# Altium footprint library PcbLib.PcbLib: 37 footprints (part 1 of 3)
Each footprint in its own frame and in the unit in brackets; x right, y up, seen from the top. Pads: shape width x height; smd on the part's side, far side on the other; paste and mask are expansions set on the pad; w line width, h text height; cw(c..) or ccw(c..) is an arc to the next point about the centre after c.
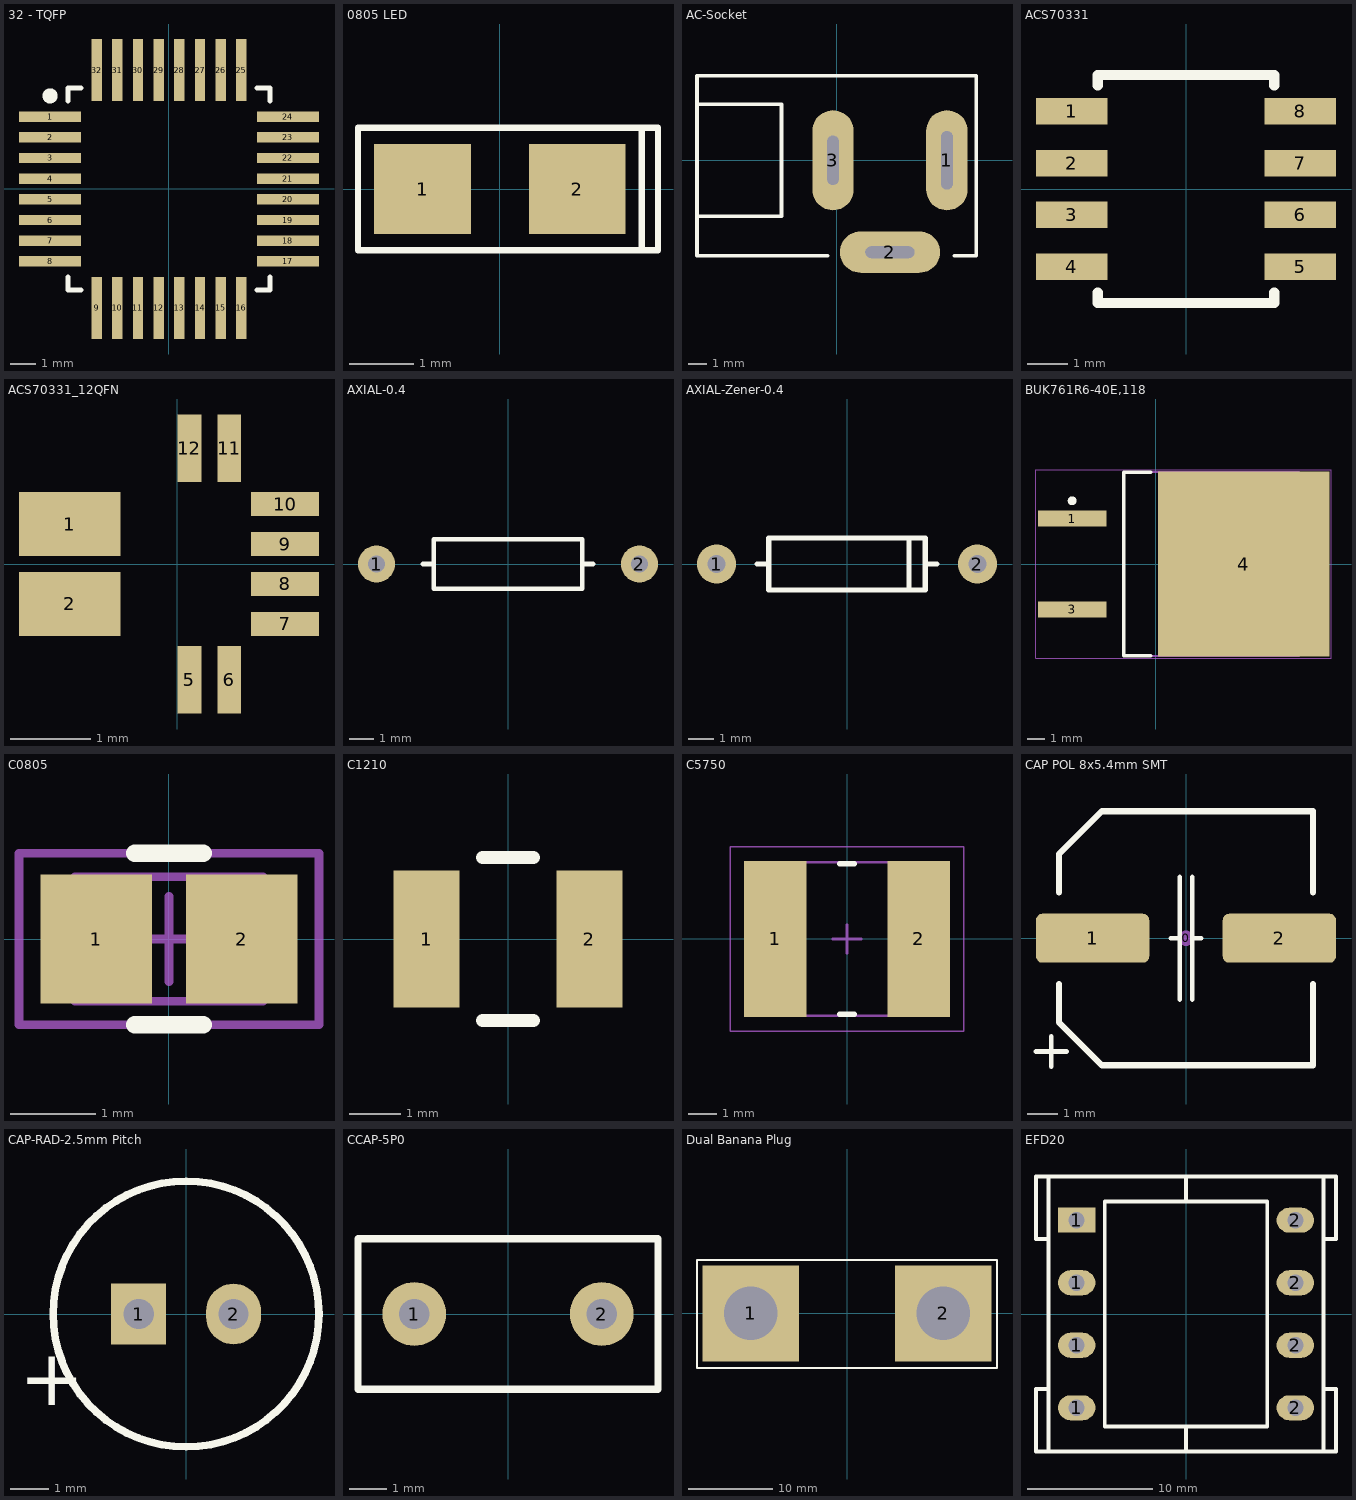
[diagram p0: the footprints below, top view; thin cyan lines are the x and y axes]

## 32 - TQFP [mm]
pads (32):
  rect 2.4x0.4 smd: 1(-4.6,2.8) 2(-4.6,2) 3(-4.6,1.2) 4(-4.6,0.4) 5(-4.6,-0.4) 6(-4.6,-1.2) 7(-4.6,-2) 8(-4.6,-2.8) 17(4.6,-2.8) 18(4.6,-2) 19(4.6,-1.2) 20(4.6,-0.4) 21(4.6,0.4) 22(4.6,1.2) 23(4.6,2) 24(4.6,2.8)
  rect 0.4x2.4 smd: 9(-2.8,-4.6) 10(-2,-4.6) 11(-1.2,-4.6) 12(-0.4,-4.6) 13(0.4,-4.6) 14(1.2,-4.6) 15(2,-4.6) 16(2.8,-4.6) 25(2.8,4.6) 26(2,4.6) 27(1.2,4.6) 28(0.4,4.6) 29(-0.4,4.6) 30(-1.2,4.6) 31(-2,4.6) 32(-2.8,4.6)
Top Overlay:
  circle w0.3: c-4.6,3.6 r0.141
  lines w0.2: -3.9,-3.4 -3.9,-3.9 -3.4,-3.9 ; -3.9,3.4 -3.9,3.9 -3.4,3.9 ; 3.4,-3.9 3.9,-3.9 3.9,-3.4 ; 3.4,3.9 3.9,3.9 3.9,3.4
3D body "ATmega_AP214.STEP": height 1, standoff -0.1, extent -4.498,-4.498 4.498,4.498
3D body: height 1.3, standoff 0.1, extent -3,2 -2.004,2.998

## 0805 LED [mm] "RED AS AlGaAs SMD LED, Body; 2mm x 1.25 mm (LxW)"
height 1
pads (2):
  rect 1.5x1.4 smd: 1(-1.2,0) 2(1.2,0)
Top Overlay:
  lines w0.1: 2.2,-0.95 2.45,-0.95 2.45,0.95 2.2,0.95 ; 2.2,-0.95 2.2,0.95 ; 2.2,-0.95 -2.2,-0.95 -2.2,0.95 2.2,0.95
Mechanical 13:
  lines w0.1: -0.7,-0.625 -0.7,0.625
3D body: height 0.6, standoff 0.5, extent -0.2,-0.2 0.2,0.2
3D body: height 1.1, standoff 0.5, extent -0.7,-0.625 0.7,0.625
3D body: height 0.5, standoff 0, extent -1,-0.625 1,0.625

## AC-Socket [mm]
pads (3):
  oval 2.25x5.45 hole 0.635 slot 3.175 at 90 deg: 1(6,0)
  oval 5.45x2.25 hole 0.635 slot 2.667 at 0 deg: 2(2.9,-5)
  oval 2.25x5.45 hole 0.635 slot 2.667 at 90 deg: 3(-0.2,0)
Top Overlay:
  lines w0.2: -7.6,-3.05 -3,-3.05 -3,3.05 -7.6,3.05 ; -0.5,-5.2 -7.6,-5.2 -7.6,4.6 7.6,4.6 7.6,-5.2 6.4,-5.2
Mechanical 1:
  lines w1: -0.2,-1.5 -0.2,1.7 ; 1.3,-5 4.4,-5 ; 6,-1.6 6,1.6
3D body "9V Connector.stp": height 10.5, standoff -4, extent -6.7,-5 6,4.2

## ACS70331 [mm] "8-SOIC model; 8 leads"
pads (8):
  rect 1.75x0.65 smd: 1(-2.8,1.905) 2(-2.8,0.635) 3(-2.8,-0.635) 4(-2.8,-1.905) 5(2.8,-1.905) 6(2.8,-0.635) 7(2.8,0.635) 8(2.8,1.905)
Top Overlay:
  lines w0.254: -2.159,-2.54 -2.159,-2.794 2.159,-2.794 2.159,-2.54 ; -2.159,2.54 -2.159,2.794 2.159,2.794 2.159,2.54
3D body "Allegro-OL-8-Package.STEP": height 1.57, standoff -0.03, extent -2.997,-2.455 3.003,2.445

## ACS70331_12QFN [mm] "HIGH SENSITIVITY, 1 MHZ, GMR-BAS"
pads (10):
  rect 1.27x0.8 smd: 1(-1.35,0.5) 2(-1.35,-0.5)
  rect 0.3x0.85 smd: 5(0.15,-1.45) 6(0.65,-1.45) 11(0.65,1.45) 12(0.15,1.45)
  rect 0.85x0.3 smd: 7(1.35,-0.75) 8(1.35,-0.25) 9(1.35,0.25) 10(1.35,0.75)
3D body "ACS70331EESATR-005U3.STEP": height 0.75, standoff -0.05, extent -1.6,-1.5 1.4,1.5

## AXIAL-0.4 [mm]
pads (2):
  round 1.524 hole 0.7: 1(-5.4,0) 2(5.4,0)
Top Overlay:
  lines w0.2: -3.5,0 -3.048,0 ; 3.048,0 3.5,0 ; -3.048,-1.016 -3.048,1.016 3.048,1.016 3.048,-1.016 -3.048,-1.016
3D body "axial_resistor_L6.8_D2.6_PinD0.6_Pitch10.8_water_green.step": height 2.7, standoff -2.9, extent -5.7,-1.297 5.7,1.298

## AXIAL-Zener-0.4 [mil]
pads (2):
  round 60 hole 27.56: 1(-200,0) 2(200,0)
Top Overlay:
  lines w7.87: -137.8,0 -120,0 ; 120,0 137.8,0 ; -120,-40 120,-40 120,40 -120,40 -120,-40
  lines w8: 95,-40 95,40
3D body "Silicone Diode 3_9x2_6.STEP": height 91.54, standoff -70.08, extent -211.02,-52.16 211.03,52.17

## BUK761R6-40E,118 [mm] "MOSFET Transistor, N Channel, 120 A, 40 V, 0.0013 ohm, 10 V, 3 V RoHS Compliant: Yes"
pads (3):
  rect 3.85x0.9 smd: 1(-4.676,2.54) 3(-4.676,-2.54)
  rect 9.6x10.35 smd: 4(4.924,0)
Top Overlay:
  circle w0.25: c-4.676,3.54 r0.125
  lines w0.2: -0.276,-5.15 -1.776,-5.15 -1.776,5.15 -0.276,5.15
Mechanical 13:
  lines w0.1: -1.776,-5.15 -1.776,5.15 8.024,5.15 8.024,-5.15 -1.776,-5.15
Mechanical 15:
  lines w0.05: -6.701,-5.275 -6.701,5.275 9.824,5.275 9.824,-5.275 -6.701,-5.275
  lines w0.1: 1.024,0 2.024,0 ; 1.524,-0.5 1.524,0.5
3D body: height 4.5, standoff 0, extent -1.776,-5.15 8.024,5.15

## C0805 [mm]
pads (2):
  rect 1.3x1.5 smd: 1(-0.85,0) 2(0.85,0)
Top Overlay:
  lines w0.2: -0.4,-1 0.4,-1 ; -0.4,1 0.4,1
Mechanical 13:
  lines w0.1: -1.1,-0.725 1.1,-0.725 1.1,0.725 -1.1,0.725 -1.1,-0.725
Mechanical 15:
  lines w0.1: -0.5,0 0.5,0 ; 0,-0.5 0,0.5 ; -1.75,-1 1.75,-1 1.75,1 -1.75,1 -1.75,-1
3D body "cap 0805.STEP": height 0.65, standoff 0, extent -1.027,-0.625 1.005,0.645

## C1210 [mm]
pads (2):
  rect 1.3x2.7 smd: 1(-1.6,0) 2(1.6,0)
Top Overlay:
  lines w0.254: -0.5,-1.6 0.5,-1.6 ; -0.5,1.6 0.5,1.6
3D body "STL@%STL@%STL@%CAP_3225.stp": height 1.24, standoff 0, extent -1.803,-1.397 1.803,1.397

## C5750 [mm] "C5750 footprint"
height 3.2
pads (2):
  rect 2.2x5.5 smd: 1(-2.525,0) 2(2.525,0)
Top Overlay:
  lines w0.2: -0.25,-2.65 0.25,-2.65 ; -0.25,2.65 0.25,2.65
Mechanical 13:
  lines w0.1: -3.05,-2.7 -3.05,2.7 3.05,2.7 3.05,-2.7 -3.05,-2.7
Mechanical 15:
  lines w0.05: -4.1,-3.25 -4.1,3.25 4.1,3.25 4.1,-3.25 -4.1,-3.25
  lines w0.1: -0.5,0 0.5,0 ; 0,-0.5 0,0.5
3D body: height 3.2, standoff 0, extent -1.55,-2.7 1.55,2.7
3D body: height 3.2, standoff 0, extent -3.05,-2.7 -1.55,2.7
3D body: height 3.2, standoff 0, extent 1.55,-2.7 3.05,2.7

## CAP POL 8x5.4mm SMT [mm]
pads (3):
  round 0.508 on Mech15: 0(0,0)
  rrect25% 3.7x1.6 smd: 1(-3.05,0) 2(3.05,0)
Top Overlay:
  lines w0.152: -4.9,-3.7 -4.4,-3.7 -3.9,-3.7 ; -4.4,-4.2 -4.4,-3.2 ; -0.5,0 -0.2,0 ; -0.2,-2 -0.2,2 ; 0.2,-2 0.2,2 ; 0.2,0 0.5,0
  lines w0.2: -4.15,-1.5 -4.15,-2.75 -2.75,-4.15 4.15,-4.15 4.15,-1.5 ; -4.15,1.5 -4.15,2.75 -2.75,4.15 4.15,4.15 4.15,1.5
3D body: height 0.4, standoff 0, extent -4.15,-4.15 4.15,4.15
3D body: height 0.2, standoff 0, extent -4.5,-0.4 4.5,0.4
3D body: height 5.4, standoff 0, extent -4,-3.997 4,3.997

## CAP-RAD-2.5mm Pitch [mm] "Cap 6.3 X 11.2"
pads (2):
  rect 1.45x1.6 hole 0.8: 1(-1.25,0)
  oval 1.45x1.6 hole 0.8: 2(1.25,0)
Top Overlay:
  circle w0.2: c0,0 r3.5
  text "+" at -4.4,-2.4 h1.5
3D body "ElecCap 6_3x11 v3.step": height 11.5, standoff -18.5, extent -3.148,-3.152 3.152,3.146

## CCAP-5P0 [mm]
pads (2):
  round 1.7 hole 0.8: 1(-2.5,0) 2(2.5,0)
Top Overlay:
  lines w0.2: -4,-2 -4,2 4,2 4,-2 -4,-2
3D body "cdisk_p5-5_d5_th3.stp": height 6.5, standoff -3.5, extent -3.25,-1.5 3.25,1.5

## Dual Banana Plug [mm] "Connector; 2 Position"
height 10.2
pads (2):
  rect 11.43x11.43 hole 6.35: 1(-11.43,0) 2(11.43,0)
Top Overlay:
  lines w0.2: -17.8,-6.477 17.8,-6.477 17.8,6.35 -17.8,6.35 -17.8,-6.477
3D body: height 5, standoff 0, extent -17.383,-5.988 -5.43,5.988
3D body: height 5, standoff 0, extent 5.477,-5.988 17.43,5.988
3D body: height 5.5, standoff 0, extent 7.431,-3.992 15.4,3.992
3D body: height 5.5, standoff 0, extent -15.384,-3.984 -7.416,4

## EFD20 [mm]
pads (8):
  oval 3x2 hole 1.3: 1(-8.75,-7.5) 1(-8.75,-2.5) 1(-8.75,2.5) 2(8.75,-7.5) 2(8.75,-2.5) 2(8.75,2.5) 2(8.75,7.5)
  rect 3x2 hole 1.3: 1(-8.75,7.5)
Top Overlay:
  lines w0.305: -11,-11 -11,11 ; -11,-6 -12,-6 -12,-11 12,-11 12,-6 11,-6 ; -11,6 -12,6 -12,11 12,11 12,6 11,6 ; 0,-11 0,-9 ; 0,9 0,11 ; 11,-11 11,11 ; -6.5,-9 6.5,-9 6.5,9 -6.5,9 -6.5,-9